# Altium schematic symbol library SolderPad.SchLib: 1 symbol
Pins are listed as number, name and electrical type; pins without a type are passive.

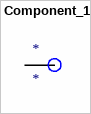
[diagram p0: symbol Component_1]

## Component_1
designator *
signal-integrity model SolderPad (Soldering pad)
footprint Square Pad (Footprint not found)